# Altium footprint library AltiumDesigner.PcbLib: 1 footprints
Each footprint in its own frame and in the unit in brackets; x right, y up, seen from the top. Pads: shape width x height; smd on the part's side, far side on the other; paste and mask are expansions set on the pad; w line width, h text height; cw(c..) or ccw(c..) is an arc to the next point about the centre after c.
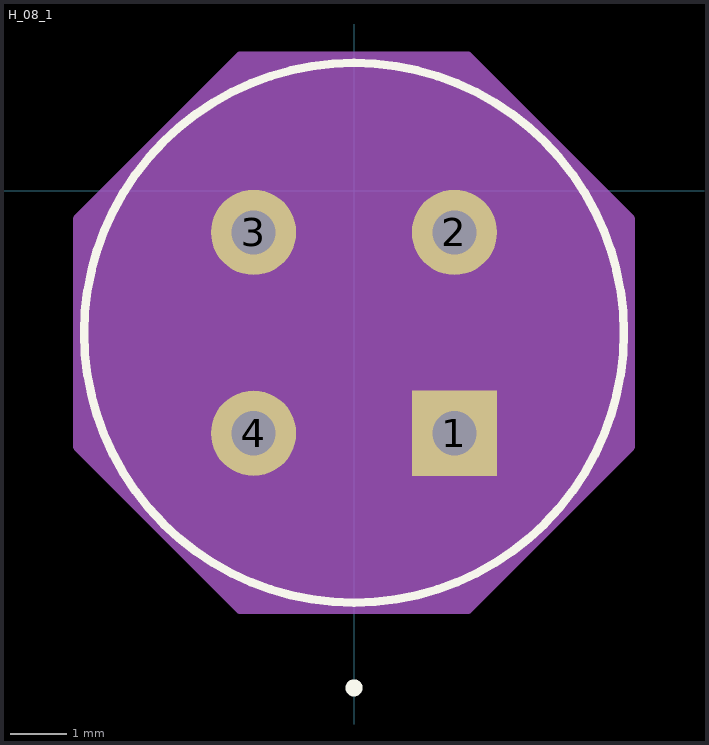
[diagram p0: the footprint, top view; thin cyan lines are the x and y axes]

## H_08_1 [mil]
pads (4):
  rect 60x60 / inner round 60 / far side rect 60x60 hole 31 paste+0 mask+0: 1(70.71,-170.71)
  round 60 hole 31 paste+0 mask+0: 2(70.71,-29.29) 3(-70.71,-29.29) 4(-70.71,-170.71)
Top Overlay:
  circle w6: c0,-350 r3
  circle w6: c0,-100 r190
Mechanical 13:
  circle w0: c0,-250 r3
  circle w0: c0,-100 r185
  lines w6: -10,-200 10,-200 ; 0,-210 0,-190
Mechanical 15:
  region: -195,-19.71 -80.29,95 80.29,95 195,-19.71 195,-180.29 80.29,-295 -80.29,-295 -195,-180.29
  lines w6: -195,-180.29 -80.29,-295 80.29,-295 195,-180.29 195,-19.71 80.29,95 -80.29,95 -195,-19.71 -195,-180.29
3D body "User Library-MLX90614.STEP": height 159.45, standoff -78.74, extent -182.04,-311.02 182.05,82.68
3D body: height 10, standoff 0, extent 0,0 10,10